# EAGLE library part FABO-DRAGONBOARD (library FaBo-Template)
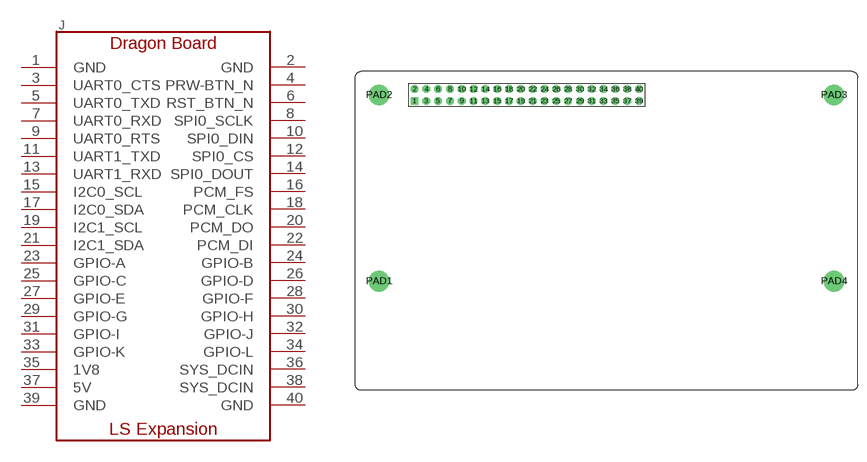
[diagram p3: symbol with the pads of FABO-DRAGONBOARD; footprint FABO-DRAGONBOARD]

Designator prefix J

## FABO-DRAGONBOARD  [FABO-DRAGONBOARD]
1  GND
2  GND
3  UART0_CTS
4  PRW-BTN_N
5  UART0_TXD
6  RST_BTN_N
7  UART0_RXD
8  SPI0_SCLK
9  UART0_RTS
10  SPI0_DIN
11  UART1_TXD
12  SPI0_CS
13  UART1_RXD
14  SPI0_DOUT
15  I2C0_SCL
16  PCM_FS
17  I2C0_SDA
18  PCM_CLK
19  I2C1_SCL
20  PCM_DO
21  I2C1_SDA
22  PCM_DI
23  GPIO-A
24  GPIO-B
25  GPIO-C
26  GPIO-D
27  GPIO-E
28  GPIO-F
29  GPIO-G
30  GPIO-H
31  GPIO-I
32  GPIO-J
33  GPIO-K
34  GPIO-L
35  1V8
36  SYS_DCIN
37  5V
38  SYS_DCIN
39  GND
40  GND

## Footprint FABO-DRAGONBOARD (pad centres in mm)
drill 0.8 pad 1.27 square: 1 10,49
drill 0.8 pad 1.27 octagon: 2 10,51; 3 12,49; 4 12,51; 5 14,49; 6 14,51; 7 16,49; 8 16,51; 9 18,49; 10 18,51; 11 20,49; 12 20,51; 13 22,49; 14 22,51; 15 24,49; 16 24,51; 17 26,49; 18 26,51; 19 28,49; 20 28,51; 21 30,49; 22 30,51; 23 32,49; 24 32,51; 25 34,49; 26 34,51; 27 36,49; 28 36,51; 29 38,49; 30 38,51; 31 40,49; 32 40,51; 33 42,49; 34 42,51; 35 44,49; 36 44,51; 37 46,49; 38 46,51; 39 48,49; 40 48,51
drill 2.5 pad 3.2: PAD1 4,18.5; PAD2 4,50; PAD3 81,50; PAD4 81,18.5